# Altium schematic symbol library Potentiometer.SchLib: 9 symbols
Pins are listed as number, name and electrical type; pins without a type are passive.

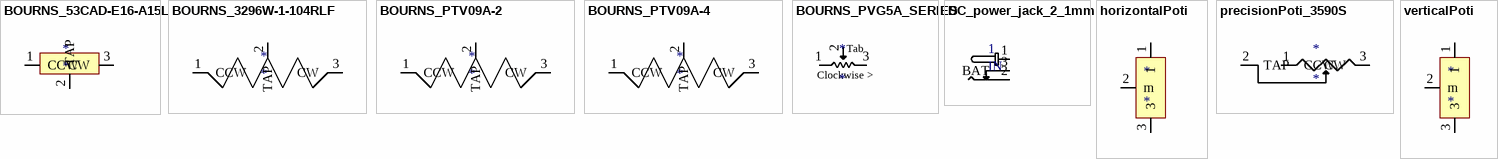
[diagram p0: symbols BOURNS_53CAD-E16-A15L to verticalPoti]

## BOURNS_53CAD-E16-A15L
designator *
MODEL 53
footprint BOURNS_53CAD-E16-A15L (MODEL 53)
pins: 1 CCW, 2 TAP, 3 CW

## BOURNS_3296W-1-104RLF
designator *
Vertical Potentiometer, multi-turn, 10%
footprint BOURNS_3296W-1 (3296 - 3/8  Square Trimpot Trimming Potentiometer)
pins: 1 CCW, 2 TAP, 3 CW

## BOURNS_PTV09A-2
designator *
Vertical/Side Mount
footprint BOURNS_PTV09A-2 (Vertical/Side Mount)
pins: 1 CCW, 2 TAP, 3 CW

## BOURNS_PTV09A-4
designator *
Horizontal/Rear Mount
footprint BOURNS_PTV09 (PTV09-A, Horizontal Mount)
pins: 1 CCW, 2 TAP, 3 CW

## BOURNS_PVG5A_SERIES
designator *
footprint BOURNS_PVG5A_SERIES
pins: 1, 2, 3
text: Tab; Clockwise >

## DC_power_jack_2_1mm
designator 1, comment IN
footprint DC_barrel_jack_2_1mm
pins: 1, 2, 3 BAT

## horizontalPoti
designator *
footprint horizontalPoti (lying poti with 3 legs)
pins: 1, 2 m, 3

## precisionPoti_3590S
designator *
Bourns 10k Potentiometer
footprint 3590S_s_precisionPoti
pins: 1 CCW, 2 TAP, 3 CW

## verticalPoti
designator *
footprint verticalPoti (standing poti with 3 legs)
pins: 1, 2 m, 3